# Altium integrated library Lattice Semiconductor ispMACH 4000C.IntLib: 180 symbols (part 19 of 28)
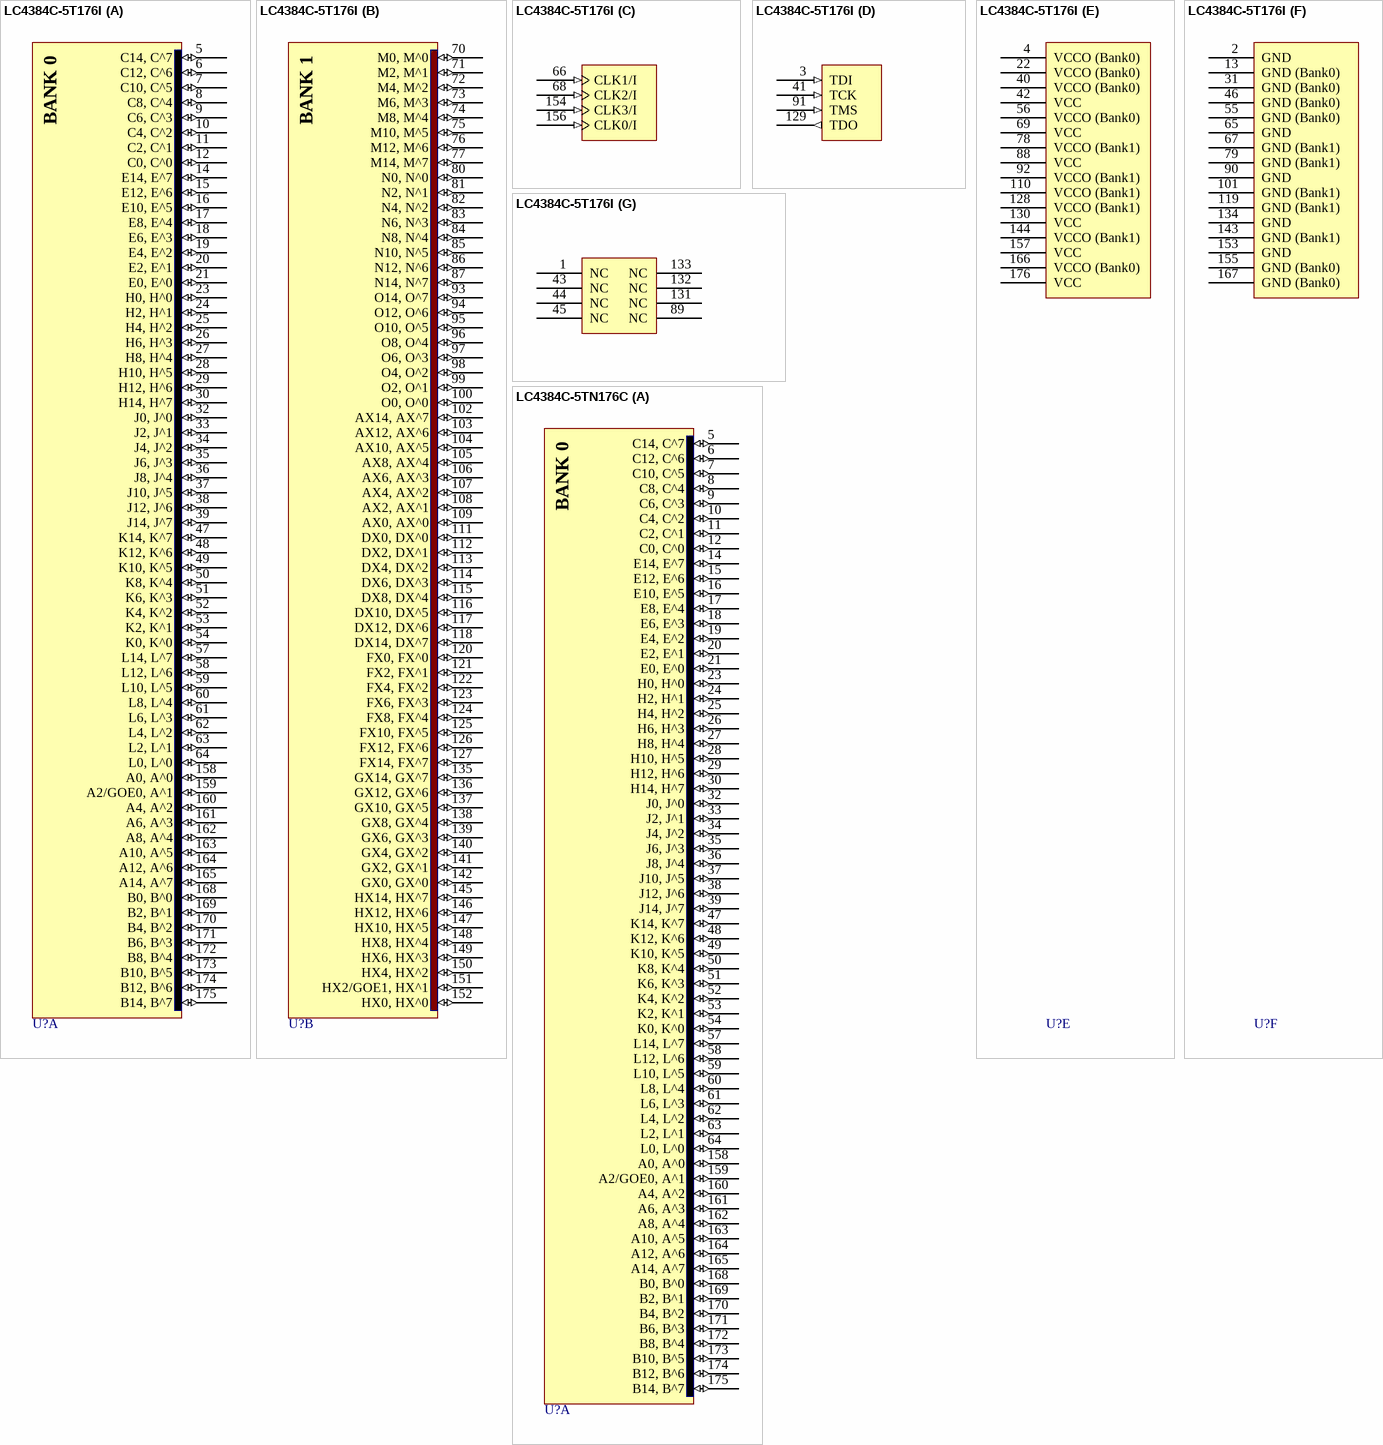
[diagram p122: symbols LC4384C-5T176I to LC4384C-5TN176C]

## LC4384C-5T176I
designator U?
ispMACH 4384 SuperFAST High Density PLD, 1.8 V, 128 User I/Os, 176-Pin TQFP, 5.0 ns, Industrial Grade; Note: Pin 46 is tied to GND (Bank 0).; DatasheetVersion: ver22.3, Mar-2007; PackageVersion: ver01.2 Feb-2007; PackageReference: TQFP176; PackageDescription: 176-Pin Thin Quad Flat Pack (TQFP176); ComponentLink1Description: Manufacturer URL; ComponentLink1URL: http://www.latticesemi.com/; ComponentLink2Description: Datasheet; ComponentLink2URL: http://www.latticesemi.com/dynamic/view_document.cfm?document_id=3646
footprint TQFP176_N (Thin QFP, 176-Leads, Body 24x24mm, Pitch 0.5mm, IPC Medium Density)
footprint TQFP176_L (Thin QFP, 176-Leads, Body 24x24mm, Pitch 0.5mm, IPC High Density)
footprint TQFP176_M (Thin QFP, 176-Leads, Body 24x24mm, Pitch 0.5mm, IPC Low Density)
part A pins: 5 C14, C^7 (io) "General purpose I/O.", 6 C12, C^6 (io) "General purpose I/O.", 7 C10, C^5 (io) "General purpose I/O.", 8 C8, C^4 (io) "General purpose I/O.", 9 C6, C^3 (io) "General purpose I/O.", 10 C4, C^2 (io) "General purpose I/O.", 11 C2, C^1 (io) "General purpose I/O.", 12 C0, C^0 (io) "General purpose I/O.", 14 E14, E^7 (io) "General purpose I/O.", 15 E12, E^6 (io) "General purpose I/O.", 16 E10, E^5 (io) "General purpose I/O.", 17 E8, E^4 (io) "General purpose I/O.", 18 E6, E^3 (io) "General purpose I/O.", 19 E4, E^2 (io) "General purpose I/O.", 20 E2, E^1 (io) "General purpose I/O.", 21 E0, E^0 (io) "General purpose I/O.", 23 H0, H^0 (io) "General purpose I/O.", 24 H2, H^1 (io) "General purpose I/O.", 25 H4, H^2 (io) "General purpose I/O.", 26 H6, H^3 (io) "General purpose I/O.", 27 H8, H^4 (io) "General purpose I/O.", 28 H10, H^5 (io) "General purpose I/O.", 29 H12, H^6 (io) "General purpose I/O.", 30 H14, H^7 (io) "General purpose I/O.", 32 J0, J^0 (io) "General purpose I/O.", 33 J2, J^1 (io) "General purpose I/O.", 34 J4, J^2 (io) "General purpose I/O.", 35 J6, J^3 (io) "General purpose I/O.", 36 J8, J^4 (io) "General purpose I/O.", 37 J10, J^5 (io) "General purpose I/O.", 38 J12, J^6 (io) "General purpose I/O.", 39 J14, J^7 (io) "General purpose I/O.", 47 K14, K^7 (io) "General purpose I/O.", 48 K12, K^6 (io) "General purpose I/O.", 49 K10, K^5 (io) "General purpose I/O.", 50 K8, K^4 (io) "General purpose I/O.", 51 K6, K^3 (io) "General purpose I/O.", 52 K4, K^2 (io) "General purpose I/O.", 53 K2, K^1 (io) "General purpose I/O.", 54 K0, K^0 (io) "General purpose I/O.", 57 L14, L^7 (io) "General purpose I/O.", 58 L12, L^6 (io) "General purpose I/O.", 59 L10, L^5 (io) "General purpose I/O.", 60 L8, L^4 (io) "General purpose I/O.", 61 L6, L^3 (io) "General purpose I/O.", 62 L4, L^2 (io) "General purpose I/O.", 63 L2, L^1 (io) "General purpose I/O.", 64 L0, L^0 (io) "General purpose I/O.", 158 A0, A^0 (io) "General purpose I/O.", 159 A2/GOE0, A^1 (io) "Either Global Output Enable Input or general I/O.", 160 A4, A^2 (io) "General purpose I/O.", 161 A6, A^3 (io) "General purpose I/O.", 162 A8, A^4 (io) "General purpose I/O.", 163 A10, A^5 (io) "General purpose I/O.", 164 A12, A^6 (io) "General purpose I/O.", 165 A14, A^7 (io) "General purpose I/O.", 168 B0, B^0 (io) "General purpose I/O.", 169 B2, B^1 (io) "General purpose I/O.", 170 B4, B^2 (io) "General purpose I/O.", 171 B6, B^3 (io) "General purpose I/O.", 172 B8, B^4 (io) "General purpose I/O.", 173 B10, B^5 (io) "General purpose I/O.", 174 B12, B^6 (io) "General purpose I/O.", 175 B14, B^7 (io) "General purpose I/O."
part B pins: 70 M0, M^0 (io) "General purpose I/O.", 71 M2, M^1 (io) "General purpose I/O.", 72 M4, M^2 (io) "General purpose I/O.", 73 M6, M^3 (io) "General purpose I/O.", 74 M8, M^4 (io) "General purpose I/O.", 75 M10, M^5 (io) "General purpose I/O.", 76 M12, M^6 (io) "General purpose I/O.", 77 M14, M^7 (io) "General purpose I/O.", 80 N0, N^0 (io) "General purpose I/O.", 81 N2, N^1 (io) "General purpose I/O.", 82 N4, N^2 (io) "General purpose I/O.", 83 N6, N^3 (io) "General purpose I/O.", 84 N8, N^4 (io) "General purpose I/O.", 85 N10, N^5 (io) "General purpose I/O.", 86 N12, N^6 (io) "General purpose I/O.", 87 N14, N^7 (io) "General purpose I/O.", 93 O14, O^7 (io) "General purpose I/O.", 94 O12, O^6 (io) "General purpose I/O.", 95 O10, O^5 (io) "General purpose I/O.", 96 O8, O^4 (io) "General purpose I/O.", 97 O6, O^3 (io) "General purpose I/O.", 98 O4, O^2 (io) "General purpose I/O.", 99 O2, O^1 (io) "General purpose I/O.", 100 O0, O^0 (io) "General purpose I/O.", 102 AX14, AX^7 (io) "General purpose I/O.", 103 AX12, AX^6 (io) "General purpose I/O.", 104 AX10, AX^5 (io) "General purpose I/O.", 105 AX8, AX^4 (io) "General purpose I/O.", 106 AX6, AX^3 (io) "General purpose I/O.", 107 AX4, AX^2 (io) "General purpose I/O.", 108 AX2, AX^1 (io) "General purpose I/O.", 109 AX0, AX^0 (io) "General purpose I/O.", 111 DX0, DX^0 (io) "General purpose I/O.", 112 DX2, DX^1 (io) "General purpose I/O.", 113 DX4, DX^2 (io) "General purpose I/O.", 114 DX6, DX^3 (io) "General purpose I/O.", 115 DX8, DX^4 (io) "General purpose I/O.", 116 DX10, DX^5 (io) "General purpose I/O.", 117 DX12, DX^6 (io) "General purpose I/O.", 118 DX14, DX^7 (io) "General purpose I/O.", 120 FX0, FX^0 (io) "General purpose I/O.", 121 FX2, FX^1 (io) "General purpose I/O.", 122 FX4, FX^2 (io) "General purpose I/O.", 123 FX6, FX^3 (io) "General purpose I/O.", 124 FX8, FX^4 (io) "General purpose I/O.", 125 FX10, FX^5 (io) "General purpose I/O.", 126 FX12, FX^6 (io) "General purpose I/O.", 127 FX14, FX^7 (io) "General purpose I/O.", 135 GX14, GX^7 (io) "General purpose I/O.", 136 GX12, GX^6 (io) "General purpose I/O.", 137 GX10, GX^5 (io) "General purpose I/O.", 138 GX8, GX^4 (io) "General purpose I/O.", 139 GX6, GX^3 (io) "General purpose I/O.", 140 GX4, GX^2 (io) "General purpose I/O.", 141 GX2, GX^1 (io) "General purpose I/O.", 142 GX0, GX^0 (io) "General purpose I/O.", 145 HX14, HX^7 (io) "General purpose I/O.", 146 HX12, HX^6 (io) "General purpose I/O.", 147 HX10, HX^5 (io) "General purpose I/O.", 148 HX8, HX^4 (io) "General purpose I/O.", 149 HX6, HX^3 (io) "General purpose I/O.", 150 HX4, HX^2 (io) "General purpose I/O.", 151 HX2/GOE1, HX^1 (io) "Either Global Output Enable Input or general I/O.", 152 HX0, HX^0 (io) "General purpose I/O."
part C pins: 66 CLK1/I (in) "Either CLK input or input.", 68 CLK2/I (in) "Either CLK input or input.", 154 CLK3/I (in) "Either CLK input or input.", 156 CLK0/I (in) "Either CLK input or input."
part D pins: 3 TDI (in) "Test Data Input. Loads data into device using 1149.1 state machine.", 41 TCK (in) "Test Clock Input for 1149.1 state machine.", 91 TMS (in) "Test Mode Select Input to control 1149.1 state machine.", 129 TDO (out) "Test Data Output. Shifts data out of device using 1149.1."
part E pins: 4 VCCO (Bank0) (power) "Power supply pin for I/O bank.", 22 VCCO (Bank0) (power) "Power supply pin for I/O bank.", 40 VCCO (Bank0) (power) "Power supply pin for I/O bank.", 42 VCC (power) "Power supply for logic core and JTAG port.", 56 VCCO (Bank0) (power) "Power supply pin for I/O bank.", 69 VCC (power) "Power supply for logic core and JTAG port.", 78 VCCO (Bank1) (power) "Power supply pin for I/O bank.", 88 VCC (power) "Power supply for logic core and JTAG port.", 92 VCCO (Bank1) (power) "Power supply pin for I/O bank.", 110 VCCO (Bank1) (power) "Power supply pin for I/O bank.", 128 VCCO (Bank1) (power) "Power supply pin for I/O bank.", 130 VCC (power) "Power supply for logic core and JTAG port.", 144 VCCO (Bank1) (power) "Power supply pin for I/O bank.", 157 VCC (power) "Power supply for logic core and JTAG port.", 166 VCCO (Bank0) (power) "Power supply pin for I/O bank.", 176 VCC (power) "Power supply for logic core and JTAG port."
part F pins: 2 GND (power) "Ground", 13 GND (Bank0) (power) "I/O Ground", 31 GND (Bank0) (power) "I/O Ground", 46 GND (Bank0) (power) "I/O Ground", 55 GND (Bank0) (power) "I/O Ground", 65 GND (power) "Ground", 67 GND (Bank1) (power) "I/O Ground", 79 GND (Bank1) (power) "I/O Ground", 90 GND (power) "Ground", 101 GND (Bank1) (power) "I/O Ground", 119 GND (Bank1) (power) "I/O Ground", 134 GND (power) "Ground", 143 GND (Bank1) (power) "I/O Ground", 153 GND (power) "Ground", 155 GND (Bank0) (power) "I/O Ground", 167 GND (Bank0) (power) "I/O Ground"
part G pins: 1 NC "Not Connected.", 43 NC "Not Connected.", 44 NC "Not Connected.", 45 NC "Not Connected.", 89 NC "Not Connected.", 131 NC "Not Connected.", 132 NC "Not Connected.", 133 NC "Not Connected."
part A text: BANK 0
part B text: BANK 1

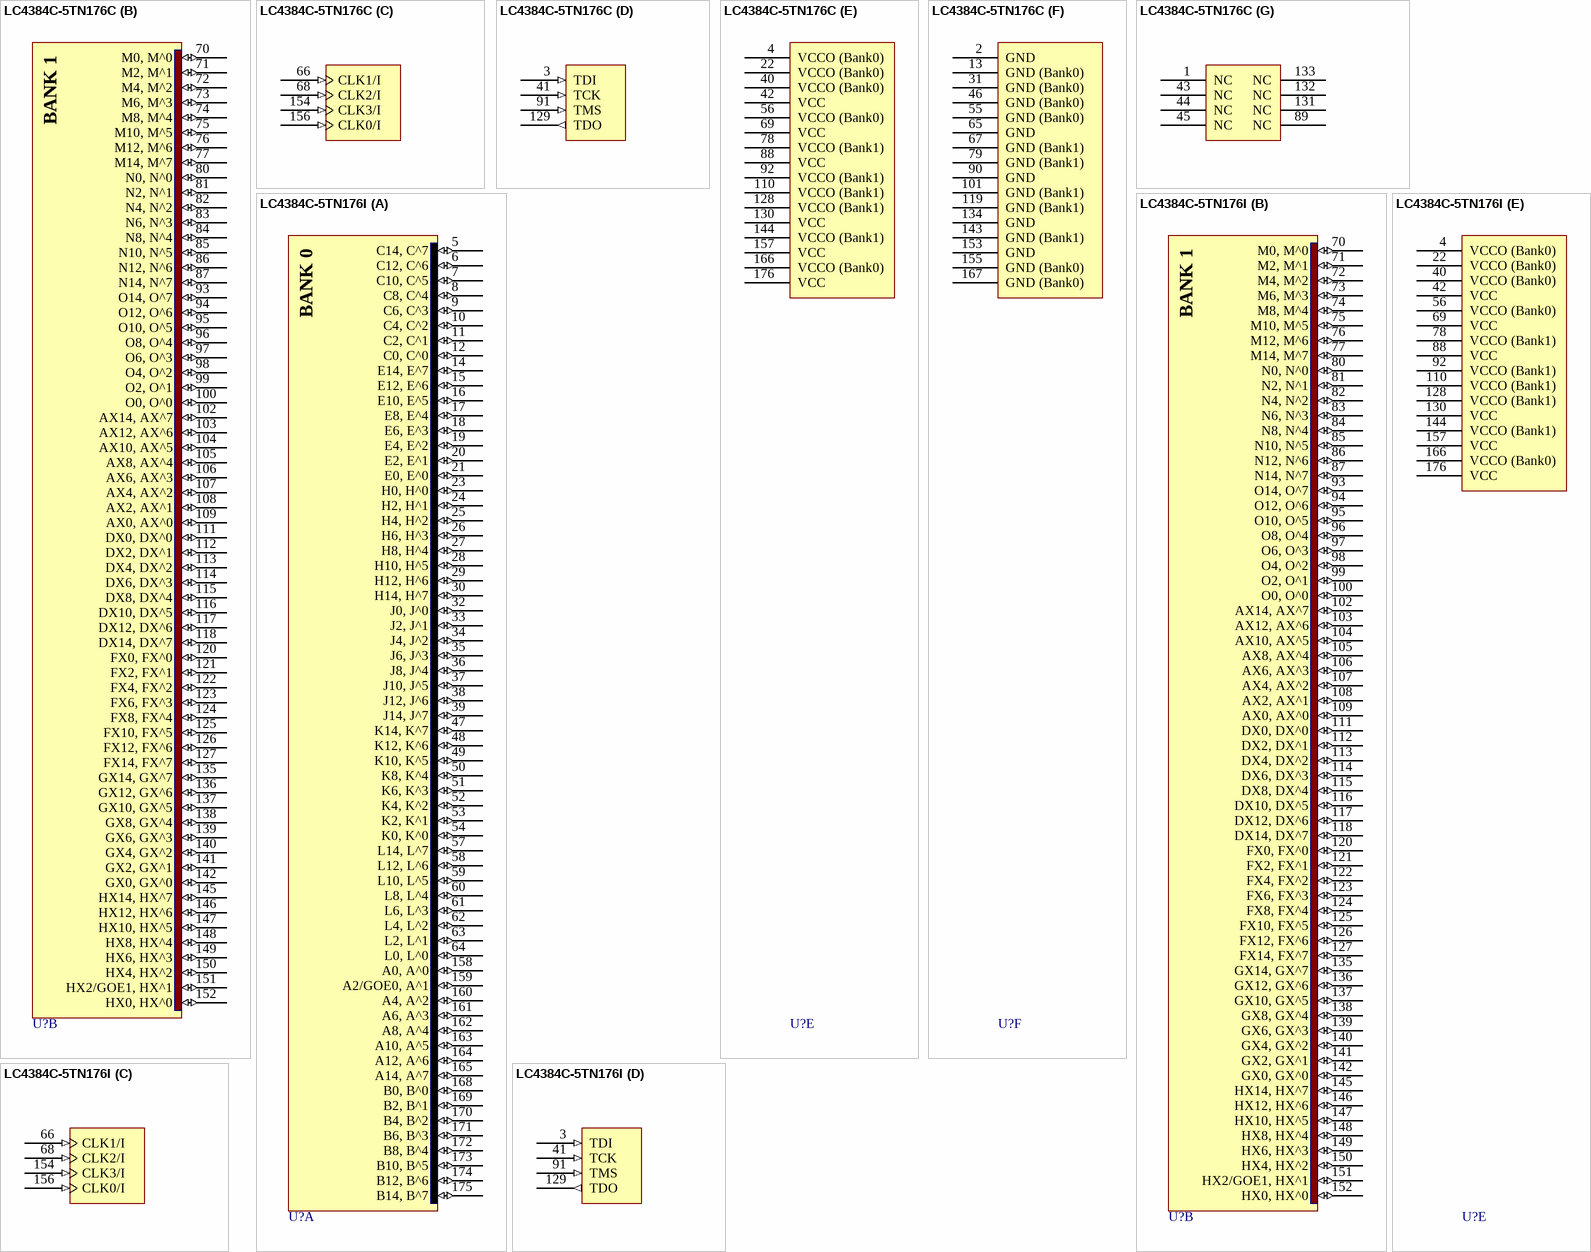
[diagram p70: symbols LC4384C-5TN176C to LC4384C-5TN176I]

## LC4384C-5TN176C
designator U?
ispMACH 4384 SuperFAST High Density PLD, 1.8 V, 128 User I/Os, 176-Pin Pb-Free TQFP, 5.0 ns, Commercial Grade; Note: Pin 46 is tied to GND (Bank 0).; DatasheetVersion: ver22.3, Mar-2007; PackageVersion: ver01.2 Feb-2007; PackageReference: TQFP176; PackageDescription: 176-Pin Thin Quad Flat Pack (TQFP176); ComponentLink1Description: Manufacturer URL; ComponentLink1URL: http://www.latticesemi.com/; ComponentLink2Description: Datasheet; ComponentLink2URL: http://www.latticesemi.com/dynamic/view_document.cfm?document_id=3646
footprint TQFP176_N (Thin QFP, 176-Leads, Body 24x24mm, Pitch 0.5mm, IPC Medium Density)
footprint TQFP176_L (Thin QFP, 176-Leads, Body 24x24mm, Pitch 0.5mm, IPC High Density)
footprint TQFP176_M (Thin QFP, 176-Leads, Body 24x24mm, Pitch 0.5mm, IPC Low Density)
part A pins: 5 C14, C^7 (io) "General purpose I/O.", 6 C12, C^6 (io) "General purpose I/O.", 7 C10, C^5 (io) "General purpose I/O.", 8 C8, C^4 (io) "General purpose I/O.", 9 C6, C^3 (io) "General purpose I/O.", 10 C4, C^2 (io) "General purpose I/O.", 11 C2, C^1 (io) "General purpose I/O.", 12 C0, C^0 (io) "General purpose I/O.", 14 E14, E^7 (io) "General purpose I/O.", 15 E12, E^6 (io) "General purpose I/O.", 16 E10, E^5 (io) "General purpose I/O.", 17 E8, E^4 (io) "General purpose I/O.", 18 E6, E^3 (io) "General purpose I/O.", 19 E4, E^2 (io) "General purpose I/O.", 20 E2, E^1 (io) "General purpose I/O.", 21 E0, E^0 (io) "General purpose I/O.", 23 H0, H^0 (io) "General purpose I/O.", 24 H2, H^1 (io) "General purpose I/O.", 25 H4, H^2 (io) "General purpose I/O.", 26 H6, H^3 (io) "General purpose I/O.", 27 H8, H^4 (io) "General purpose I/O.", 28 H10, H^5 (io) "General purpose I/O.", 29 H12, H^6 (io) "General purpose I/O.", 30 H14, H^7 (io) "General purpose I/O.", 32 J0, J^0 (io) "General purpose I/O.", 33 J2, J^1 (io) "General purpose I/O.", 34 J4, J^2 (io) "General purpose I/O.", 35 J6, J^3 (io) "General purpose I/O.", 36 J8, J^4 (io) "General purpose I/O.", 37 J10, J^5 (io) "General purpose I/O.", 38 J12, J^6 (io) "General purpose I/O.", 39 J14, J^7 (io) "General purpose I/O.", 47 K14, K^7 (io) "General purpose I/O.", 48 K12, K^6 (io) "General purpose I/O.", 49 K10, K^5 (io) "General purpose I/O.", 50 K8, K^4 (io) "General purpose I/O.", 51 K6, K^3 (io) "General purpose I/O.", 52 K4, K^2 (io) "General purpose I/O.", 53 K2, K^1 (io) "General purpose I/O.", 54 K0, K^0 (io) "General purpose I/O.", 57 L14, L^7 (io) "General purpose I/O.", 58 L12, L^6 (io) "General purpose I/O.", 59 L10, L^5 (io) "General purpose I/O.", 60 L8, L^4 (io) "General purpose I/O.", 61 L6, L^3 (io) "General purpose I/O.", 62 L4, L^2 (io) "General purpose I/O.", 63 L2, L^1 (io) "General purpose I/O.", 64 L0, L^0 (io) "General purpose I/O.", 158 A0, A^0 (io) "General purpose I/O.", 159 A2/GOE0, A^1 (io) "Either Global Output Enable Input or general I/O.", 160 A4, A^2 (io) "General purpose I/O.", 161 A6, A^3 (io) "General purpose I/O.", 162 A8, A^4 (io) "General purpose I/O.", 163 A10, A^5 (io) "General purpose I/O.", 164 A12, A^6 (io) "General purpose I/O.", 165 A14, A^7 (io) "General purpose I/O.", 168 B0, B^0 (io) "General purpose I/O.", 169 B2, B^1 (io) "General purpose I/O.", 170 B4, B^2 (io) "General purpose I/O.", 171 B6, B^3 (io) "General purpose I/O.", 172 B8, B^4 (io) "General purpose I/O.", 173 B10, B^5 (io) "General purpose I/O.", 174 B12, B^6 (io) "General purpose I/O.", 175 B14, B^7 (io) "General purpose I/O."
part B pins: 70 M0, M^0 (io) "General purpose I/O.", 71 M2, M^1 (io) "General purpose I/O.", 72 M4, M^2 (io) "General purpose I/O.", 73 M6, M^3 (io) "General purpose I/O.", 74 M8, M^4 (io) "General purpose I/O.", 75 M10, M^5 (io) "General purpose I/O.", 76 M12, M^6 (io) "General purpose I/O.", 77 M14, M^7 (io) "General purpose I/O.", 80 N0, N^0 (io) "General purpose I/O.", 81 N2, N^1 (io) "General purpose I/O.", 82 N4, N^2 (io) "General purpose I/O.", 83 N6, N^3 (io) "General purpose I/O.", 84 N8, N^4 (io) "General purpose I/O.", 85 N10, N^5 (io) "General purpose I/O.", 86 N12, N^6 (io) "General purpose I/O.", 87 N14, N^7 (io) "General purpose I/O.", 93 O14, O^7 (io) "General purpose I/O.", 94 O12, O^6 (io) "General purpose I/O.", 95 O10, O^5 (io) "General purpose I/O.", 96 O8, O^4 (io) "General purpose I/O.", 97 O6, O^3 (io) "General purpose I/O.", 98 O4, O^2 (io) "General purpose I/O.", 99 O2, O^1 (io) "General purpose I/O.", 100 O0, O^0 (io) "General purpose I/O.", 102 AX14, AX^7 (io) "General purpose I/O.", 103 AX12, AX^6 (io) "General purpose I/O.", 104 AX10, AX^5 (io) "General purpose I/O.", 105 AX8, AX^4 (io) "General purpose I/O.", 106 AX6, AX^3 (io) "General purpose I/O.", 107 AX4, AX^2 (io) "General purpose I/O.", 108 AX2, AX^1 (io) "General purpose I/O.", 109 AX0, AX^0 (io) "General purpose I/O.", 111 DX0, DX^0 (io) "General purpose I/O.", 112 DX2, DX^1 (io) "General purpose I/O.", 113 DX4, DX^2 (io) "General purpose I/O.", 114 DX6, DX^3 (io) "General purpose I/O.", 115 DX8, DX^4 (io) "General purpose I/O.", 116 DX10, DX^5 (io) "General purpose I/O.", 117 DX12, DX^6 (io) "General purpose I/O.", 118 DX14, DX^7 (io) "General purpose I/O.", 120 FX0, FX^0 (io) "General purpose I/O.", 121 FX2, FX^1 (io) "General purpose I/O.", 122 FX4, FX^2 (io) "General purpose I/O.", 123 FX6, FX^3 (io) "General purpose I/O.", 124 FX8, FX^4 (io) "General purpose I/O.", 125 FX10, FX^5 (io) "General purpose I/O.", 126 FX12, FX^6 (io) "General purpose I/O.", 127 FX14, FX^7 (io) "General purpose I/O.", 135 GX14, GX^7 (io) "General purpose I/O.", 136 GX12, GX^6 (io) "General purpose I/O.", 137 GX10, GX^5 (io) "General purpose I/O.", 138 GX8, GX^4 (io) "General purpose I/O.", 139 GX6, GX^3 (io) "General purpose I/O.", 140 GX4, GX^2 (io) "General purpose I/O.", 141 GX2, GX^1 (io) "General purpose I/O.", 142 GX0, GX^0 (io) "General purpose I/O.", 145 HX14, HX^7 (io) "General purpose I/O.", 146 HX12, HX^6 (io) "General purpose I/O.", 147 HX10, HX^5 (io) "General purpose I/O.", 148 HX8, HX^4 (io) "General purpose I/O.", 149 HX6, HX^3 (io) "General purpose I/O.", 150 HX4, HX^2 (io) "General purpose I/O.", 151 HX2/GOE1, HX^1 (io) "Either Global Output Enable Input or general I/O.", 152 HX0, HX^0 (io) "General purpose I/O."
part C pins: 66 CLK1/I (in) "Either CLK input or input.", 68 CLK2/I (in) "Either CLK input or input.", 154 CLK3/I (in) "Either CLK input or input.", 156 CLK0/I (in) "Either CLK input or input."
part D pins: 3 TDI (in) "Test Data Input. Loads data into device using 1149.1 state machine.", 41 TCK (in) "Test Clock Input for 1149.1 state machine.", 91 TMS (in) "Test Mode Select Input to control 1149.1 state machine.", 129 TDO (out) "Test Data Output. Shifts data out of device using 1149.1."
part E pins: 4 VCCO (Bank0) (power) "Power supply pin for I/O bank.", 22 VCCO (Bank0) (power) "Power supply pin for I/O bank.", 40 VCCO (Bank0) (power) "Power supply pin for I/O bank.", 42 VCC (power) "Power supply for logic core and JTAG port.", 56 VCCO (Bank0) (power) "Power supply pin for I/O bank.", 69 VCC (power) "Power supply for logic core and JTAG port.", 78 VCCO (Bank1) (power) "Power supply pin for I/O bank.", 88 VCC (power) "Power supply for logic core and JTAG port.", 92 VCCO (Bank1) (power) "Power supply pin for I/O bank.", 110 VCCO (Bank1) (power) "Power supply pin for I/O bank.", 128 VCCO (Bank1) (power) "Power supply pin for I/O bank.", 130 VCC (power) "Power supply for logic core and JTAG port.", 144 VCCO (Bank1) (power) "Power supply pin for I/O bank.", 157 VCC (power) "Power supply for logic core and JTAG port.", 166 VCCO (Bank0) (power) "Power supply pin for I/O bank.", 176 VCC (power) "Power supply for logic core and JTAG port."
part F pins: 2 GND (power) "Ground", 13 GND (Bank0) (power) "I/O Ground", 31 GND (Bank0) (power) "I/O Ground", 46 GND (Bank0) (power) "I/O Ground", 55 GND (Bank0) (power) "I/O Ground", 65 GND (power) "Ground", 67 GND (Bank1) (power) "I/O Ground", 79 GND (Bank1) (power) "I/O Ground", 90 GND (power) "Ground", 101 GND (Bank1) (power) "I/O Ground", 119 GND (Bank1) (power) "I/O Ground", 134 GND (power) "Ground", 143 GND (Bank1) (power) "I/O Ground", 153 GND (power) "Ground", 155 GND (Bank0) (power) "I/O Ground", 167 GND (Bank0) (power) "I/O Ground"
part G pins: 1 NC "Not Connected.", 43 NC "Not Connected.", 44 NC "Not Connected.", 45 NC "Not Connected.", 89 NC "Not Connected.", 131 NC "Not Connected.", 132 NC "Not Connected.", 133 NC "Not Connected."
part A text: BANK 0
part B text: BANK 1

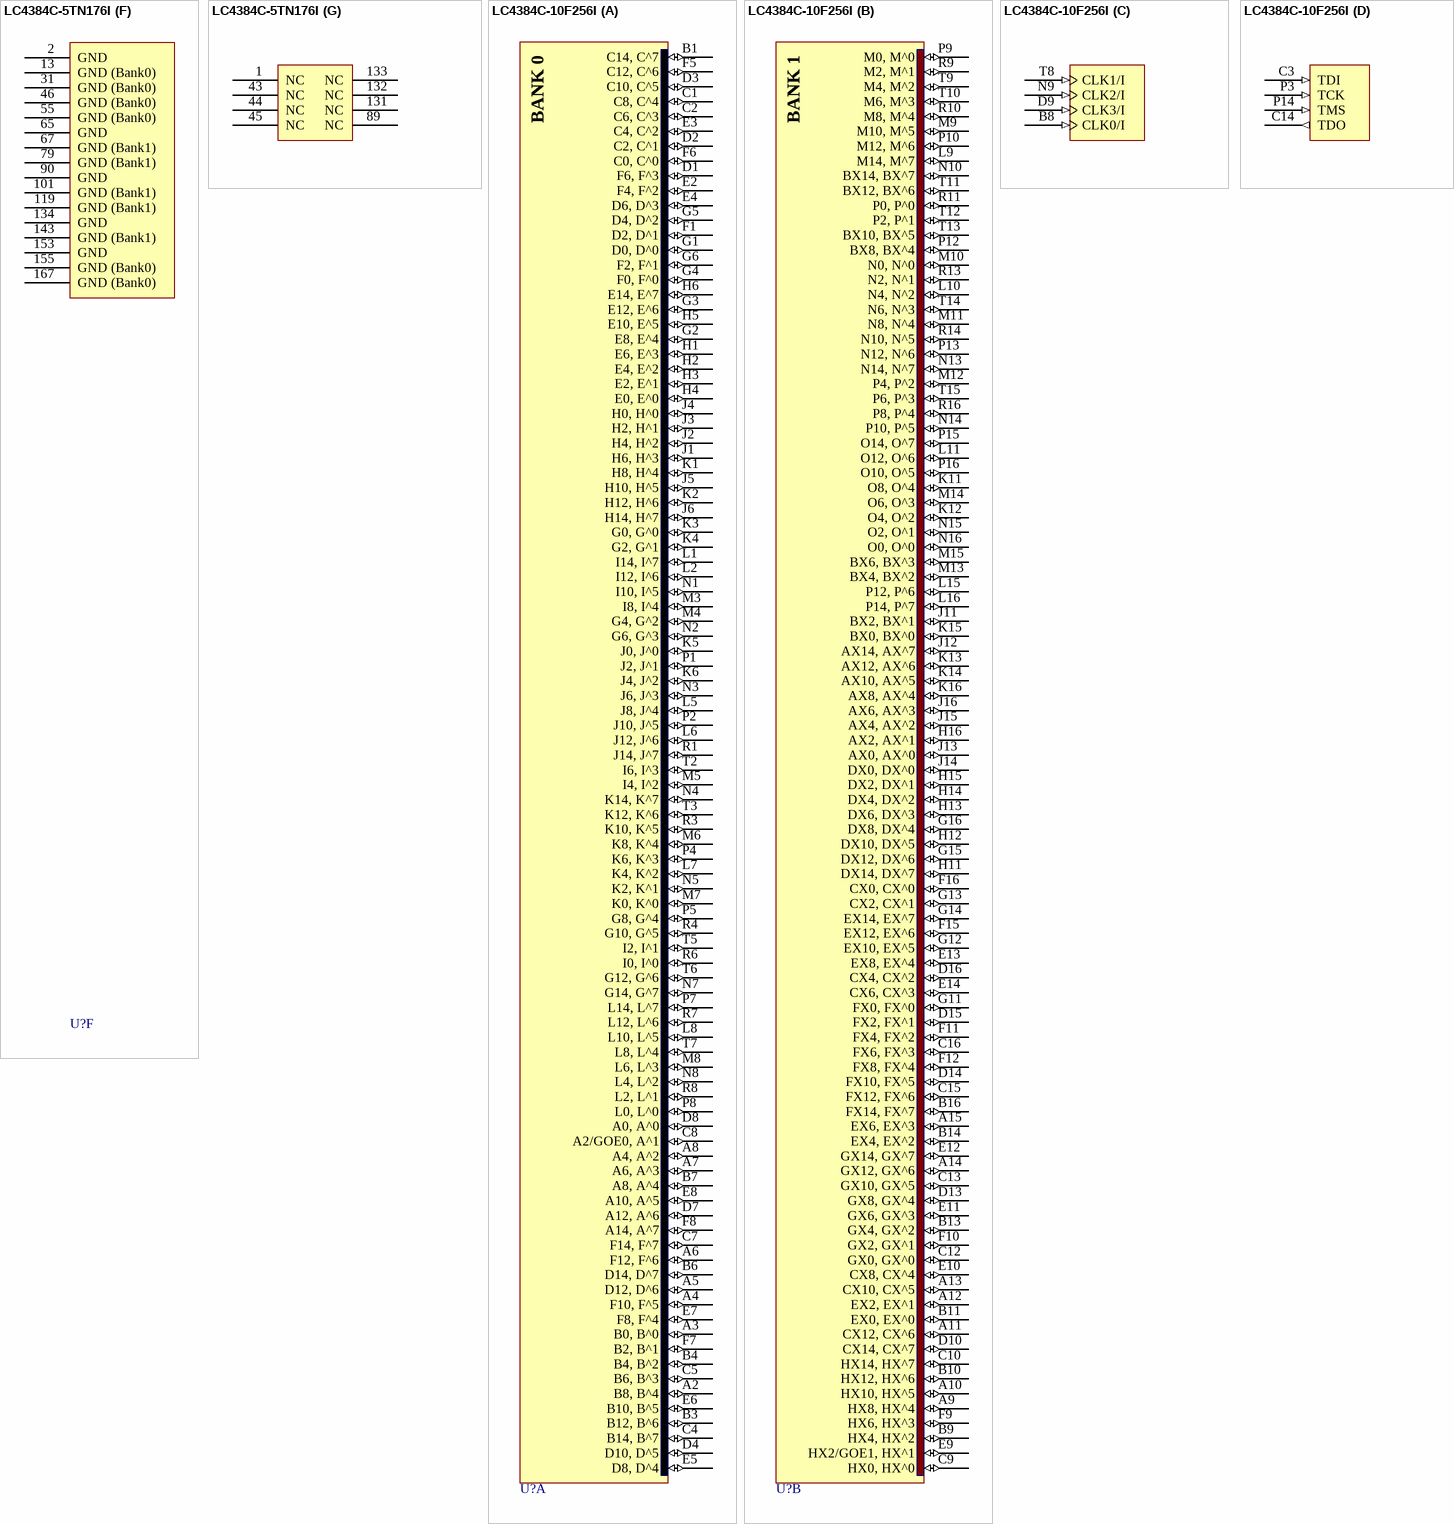
[diagram p71: symbols LC4384C-5TN176I to LC4384C-10F256I]

## LC4384C-5TN176I
designator U?
ispMACH 4384 SuperFAST High Density PLD, 1.8 V, 128 User I/Os, 176-Pin Pb-Free TQFP, 5.0 ns, Industrial Grade; Note: Pin 46 is tied to GND (Bank 0).; DatasheetVersion: ver22.3, Mar-2007; PackageVersion: ver01.2 Feb-2007; PackageReference: TQFP176; PackageDescription: 176-Pin Thin Quad Flat Pack (TQFP176); ComponentLink1Description: Manufacturer URL; ComponentLink1URL: http://www.latticesemi.com/; ComponentLink2Description: Datasheet; ComponentLink2URL: http://www.latticesemi.com/dynamic/view_document.cfm?document_id=3646
footprint TQFP176_N (Thin QFP, 176-Leads, Body 24x24mm, Pitch 0.5mm, IPC Medium Density)
footprint TQFP176_L (Thin QFP, 176-Leads, Body 24x24mm, Pitch 0.5mm, IPC High Density)
footprint TQFP176_M (Thin QFP, 176-Leads, Body 24x24mm, Pitch 0.5mm, IPC Low Density)
part A pins: 5 C14, C^7 (io) "General purpose I/O.", 6 C12, C^6 (io) "General purpose I/O.", 7 C10, C^5 (io) "General purpose I/O.", 8 C8, C^4 (io) "General purpose I/O.", 9 C6, C^3 (io) "General purpose I/O.", 10 C4, C^2 (io) "General purpose I/O.", 11 C2, C^1 (io) "General purpose I/O.", 12 C0, C^0 (io) "General purpose I/O.", 14 E14, E^7 (io) "General purpose I/O.", 15 E12, E^6 (io) "General purpose I/O.", 16 E10, E^5 (io) "General purpose I/O.", 17 E8, E^4 (io) "General purpose I/O.", 18 E6, E^3 (io) "General purpose I/O.", 19 E4, E^2 (io) "General purpose I/O.", 20 E2, E^1 (io) "General purpose I/O.", 21 E0, E^0 (io) "General purpose I/O.", 23 H0, H^0 (io) "General purpose I/O.", 24 H2, H^1 (io) "General purpose I/O.", 25 H4, H^2 (io) "General purpose I/O.", 26 H6, H^3 (io) "General purpose I/O.", 27 H8, H^4 (io) "General purpose I/O.", 28 H10, H^5 (io) "General purpose I/O.", 29 H12, H^6 (io) "General purpose I/O.", 30 H14, H^7 (io) "General purpose I/O.", 32 J0, J^0 (io) "General purpose I/O.", 33 J2, J^1 (io) "General purpose I/O.", 34 J4, J^2 (io) "General purpose I/O.", 35 J6, J^3 (io) "General purpose I/O.", 36 J8, J^4 (io) "General purpose I/O.", 37 J10, J^5 (io) "General purpose I/O.", 38 J12, J^6 (io) "General purpose I/O.", 39 J14, J^7 (io) "General purpose I/O.", 47 K14, K^7 (io) "General purpose I/O.", 48 K12, K^6 (io) "General purpose I/O.", 49 K10, K^5 (io) "General purpose I/O.", 50 K8, K^4 (io) "General purpose I/O.", 51 K6, K^3 (io) "General purpose I/O.", 52 K4, K^2 (io) "General purpose I/O.", 53 K2, K^1 (io) "General purpose I/O.", 54 K0, K^0 (io) "General purpose I/O.", 57 L14, L^7 (io) "General purpose I/O.", 58 L12, L^6 (io) "General purpose I/O.", 59 L10, L^5 (io) "General purpose I/O.", 60 L8, L^4 (io) "General purpose I/O.", 61 L6, L^3 (io) "General purpose I/O.", 62 L4, L^2 (io) "General purpose I/O.", 63 L2, L^1 (io) "General purpose I/O.", 64 L0, L^0 (io) "General purpose I/O.", 158 A0, A^0 (io) "General purpose I/O.", 159 A2/GOE0, A^1 (io) "Either Global Output Enable Input or general I/O.", 160 A4, A^2 (io) "General purpose I/O.", 161 A6, A^3 (io) "General purpose I/O.", 162 A8, A^4 (io) "General purpose I/O.", 163 A10, A^5 (io) "General purpose I/O.", 164 A12, A^6 (io) "General purpose I/O.", 165 A14, A^7 (io) "General purpose I/O.", 168 B0, B^0 (io) "General purpose I/O.", 169 B2, B^1 (io) "General purpose I/O.", 170 B4, B^2 (io) "General purpose I/O.", 171 B6, B^3 (io) "General purpose I/O.", 172 B8, B^4 (io) "General purpose I/O.", 173 B10, B^5 (io) "General purpose I/O.", 174 B12, B^6 (io) "General purpose I/O.", 175 B14, B^7 (io) "General purpose I/O."
part B pins: 70 M0, M^0 (io) "General purpose I/O.", 71 M2, M^1 (io) "General purpose I/O.", 72 M4, M^2 (io) "General purpose I/O.", 73 M6, M^3 (io) "General purpose I/O.", 74 M8, M^4 (io) "General purpose I/O.", 75 M10, M^5 (io) "General purpose I/O.", 76 M12, M^6 (io) "General purpose I/O.", 77 M14, M^7 (io) "General purpose I/O.", 80 N0, N^0 (io) "General purpose I/O.", 81 N2, N^1 (io) "General purpose I/O.", 82 N4, N^2 (io) "General purpose I/O.", 83 N6, N^3 (io) "General purpose I/O.", 84 N8, N^4 (io) "General purpose I/O.", 85 N10, N^5 (io) "General purpose I/O.", 86 N12, N^6 (io) "General purpose I/O.", 87 N14, N^7 (io) "General purpose I/O.", 93 O14, O^7 (io) "General purpose I/O.", 94 O12, O^6 (io) "General purpose I/O.", 95 O10, O^5 (io) "General purpose I/O.", 96 O8, O^4 (io) "General purpose I/O.", 97 O6, O^3 (io) "General purpose I/O.", 98 O4, O^2 (io) "General purpose I/O.", 99 O2, O^1 (io) "General purpose I/O.", 100 O0, O^0 (io) "General purpose I/O.", 102 AX14, AX^7 (io) "General purpose I/O.", 103 AX12, AX^6 (io) "General purpose I/O.", 104 AX10, AX^5 (io) "General purpose I/O.", 105 AX8, AX^4 (io) "General purpose I/O.", 106 AX6, AX^3 (io) "General purpose I/O.", 107 AX4, AX^2 (io) "General purpose I/O.", 108 AX2, AX^1 (io) "General purpose I/O.", 109 AX0, AX^0 (io) "General purpose I/O.", 111 DX0, DX^0 (io) "General purpose I/O.", 112 DX2, DX^1 (io) "General purpose I/O.", 113 DX4, DX^2 (io) "General purpose I/O.", 114 DX6, DX^3 (io) "General purpose I/O.", 115 DX8, DX^4 (io) "General purpose I/O.", 116 DX10, DX^5 (io) "General purpose I/O.", 117 DX12, DX^6 (io) "General purpose I/O.", 118 DX14, DX^7 (io) "General purpose I/O.", 120 FX0, FX^0 (io) "General purpose I/O.", 121 FX2, FX^1 (io) "General purpose I/O.", 122 FX4, FX^2 (io) "General purpose I/O.", 123 FX6, FX^3 (io) "General purpose I/O.", 124 FX8, FX^4 (io) "General purpose I/O.", 125 FX10, FX^5 (io) "General purpose I/O.", 126 FX12, FX^6 (io) "General purpose I/O.", 127 FX14, FX^7 (io) "General purpose I/O.", 135 GX14, GX^7 (io) "General purpose I/O.", 136 GX12, GX^6 (io) "General purpose I/O.", 137 GX10, GX^5 (io) "General purpose I/O.", 138 GX8, GX^4 (io) "General purpose I/O.", 139 GX6, GX^3 (io) "General purpose I/O.", 140 GX4, GX^2 (io) "General purpose I/O.", 141 GX2, GX^1 (io) "General purpose I/O.", 142 GX0, GX^0 (io) "General purpose I/O.", 145 HX14, HX^7 (io) "General purpose I/O.", 146 HX12, HX^6 (io) "General purpose I/O.", 147 HX10, HX^5 (io) "General purpose I/O.", 148 HX8, HX^4 (io) "General purpose I/O.", 149 HX6, HX^3 (io) "General purpose I/O.", 150 HX4, HX^2 (io) "General purpose I/O.", 151 HX2/GOE1, HX^1 (io) "Either Global Output Enable Input or general I/O.", 152 HX0, HX^0 (io) "General purpose I/O."
part C pins: 66 CLK1/I (in) "Either CLK input or input.", 68 CLK2/I (in) "Either CLK input or input.", 154 CLK3/I (in) "Either CLK input or input.", 156 CLK0/I (in) "Either CLK input or input."
part D pins: 3 TDI (in) "Test Data Input. Loads data into device using 1149.1 state machine.", 41 TCK (in) "Test Clock Input for 1149.1 state machine.", 91 TMS (in) "Test Mode Select Input to control 1149.1 state machine.", 129 TDO (out) "Test Data Output. Shifts data out of device using 1149.1."
part E pins: 4 VCCO (Bank0) (power) "Power supply pin for I/O bank.", 22 VCCO (Bank0) (power) "Power supply pin for I/O bank.", 40 VCCO (Bank0) (power) "Power supply pin for I/O bank.", 42 VCC (power) "Power supply for logic core and JTAG port.", 56 VCCO (Bank0) (power) "Power supply pin for I/O bank.", 69 VCC (power) "Power supply for logic core and JTAG port.", 78 VCCO (Bank1) (power) "Power supply pin for I/O bank.", 88 VCC (power) "Power supply for logic core and JTAG port.", 92 VCCO (Bank1) (power) "Power supply pin for I/O bank.", 110 VCCO (Bank1) (power) "Power supply pin for I/O bank.", 128 VCCO (Bank1) (power) "Power supply pin for I/O bank.", 130 VCC (power) "Power supply for logic core and JTAG port.", 144 VCCO (Bank1) (power) "Power supply pin for I/O bank.", 157 VCC (power) "Power supply for logic core and JTAG port.", 166 VCCO (Bank0) (power) "Power supply pin for I/O bank.", 176 VCC (power) "Power supply for logic core and JTAG port."
part F pins: 2 GND (power) "Ground", 13 GND (Bank0) (power) "I/O Ground", 31 GND (Bank0) (power) "I/O Ground", 46 GND (Bank0) (power) "I/O Ground", 55 GND (Bank0) (power) "I/O Ground", 65 GND (power) "Ground", 67 GND (Bank1) (power) "I/O Ground", 79 GND (Bank1) (power) "I/O Ground", 90 GND (power) "Ground", 101 GND (Bank1) (power) "I/O Ground", 119 GND (Bank1) (power) "I/O Ground", 134 GND (power) "Ground", 143 GND (Bank1) (power) "I/O Ground", 153 GND (power) "Ground", 155 GND (Bank0) (power) "I/O Ground", 167 GND (Bank0) (power) "I/O Ground"
part G pins: 1 NC "Not Connected.", 43 NC "Not Connected.", 44 NC "Not Connected.", 45 NC "Not Connected.", 89 NC "Not Connected.", 131 NC "Not Connected.", 132 NC "Not Connected.", 133 NC "Not Connected."
part A text: BANK 0
part B text: BANK 1

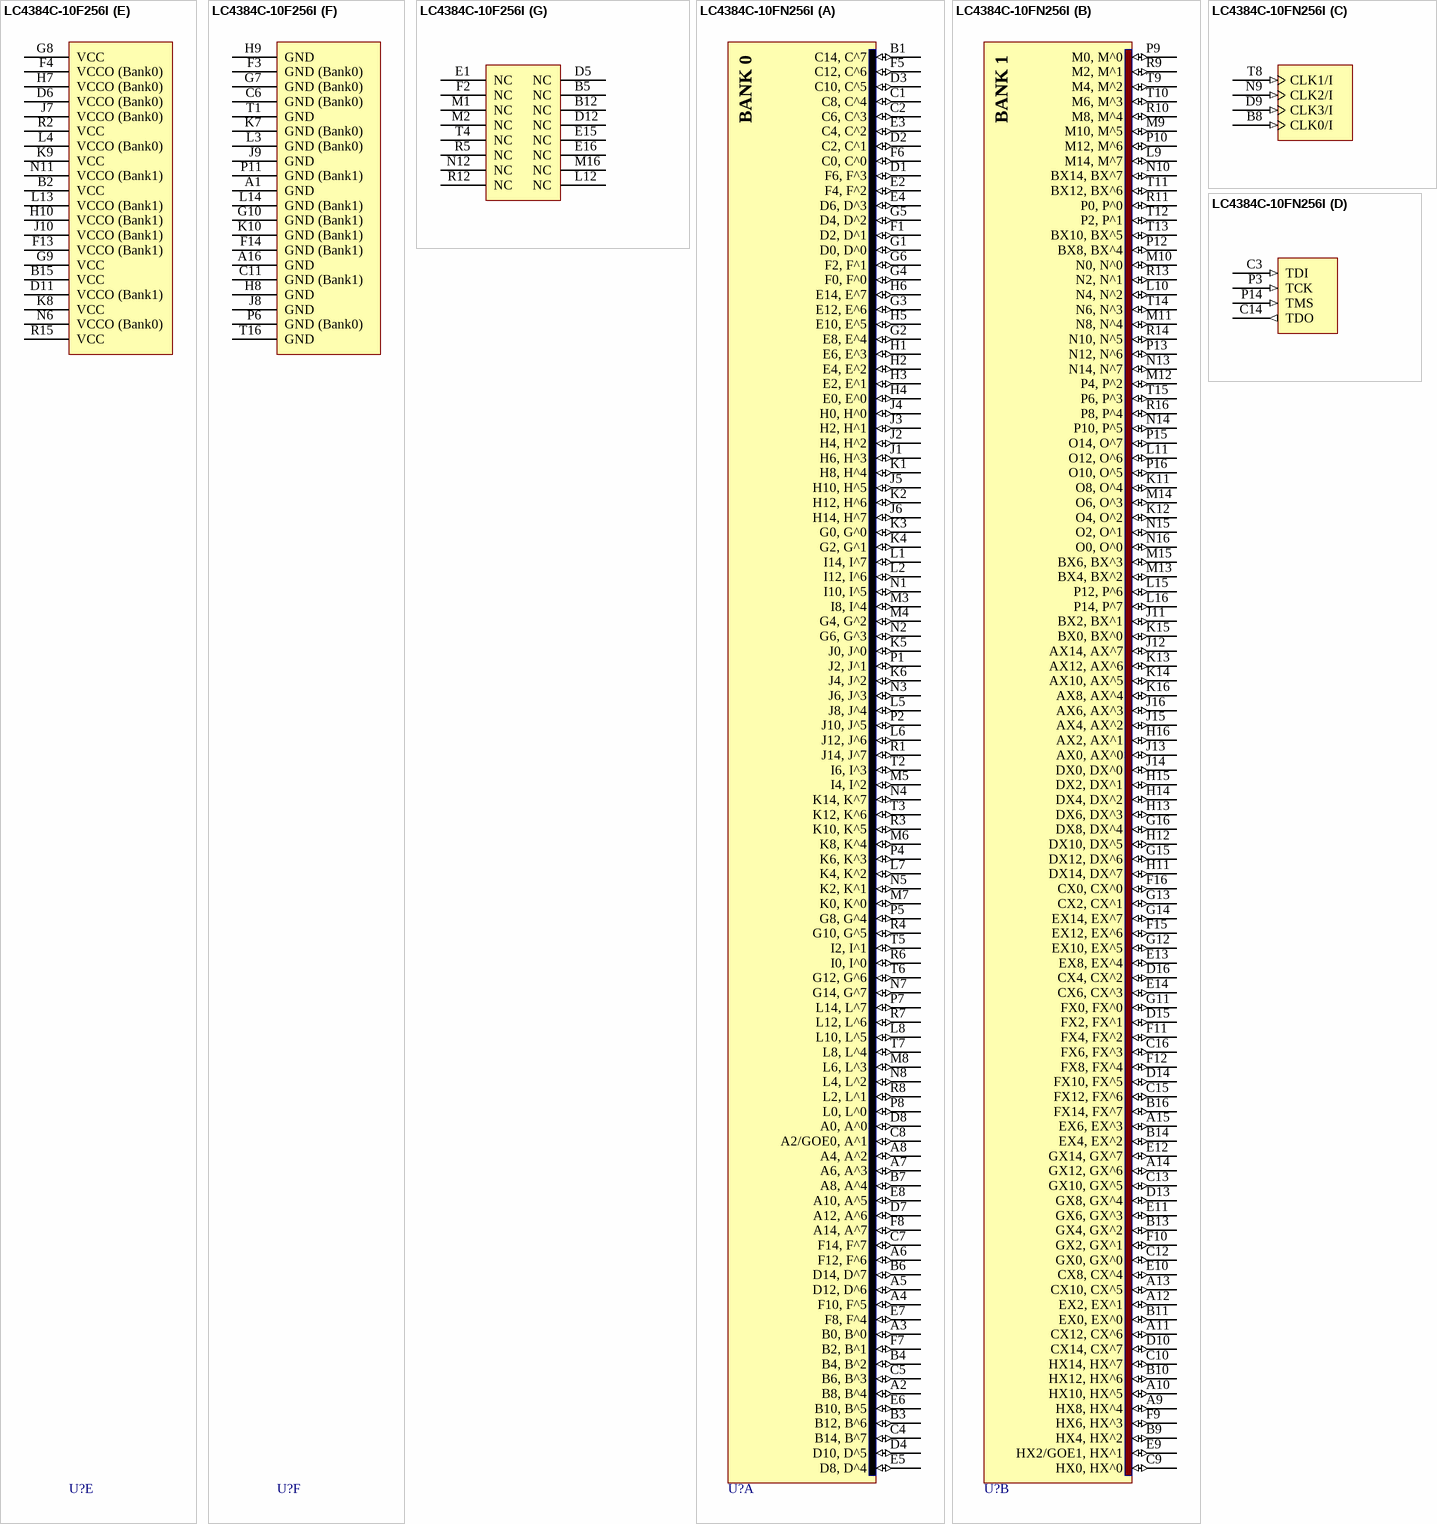
[diagram p72: symbols LC4384C-10F256I to LC4384C-10FN256I]

## LC4384C-10F256I
designator U?
ispMACH 4384 SuperFAST High Density PLD, 1.8 V, 192 User I/Os, 256-Ball fpBGA, 10 ns, Industrial Grade; DatasheetVersion: ver22.3, Mar-2007; PackageVersion: ver01.8, Dec-2008; PackageReference: fpBGA256; PackageDescription: 256-Ball Fine Pitch Ball Grid Array (fpBGA256); Code_IPC: BGA100P16X16-256; ComponentLink1Description: Manufacturer URL; ComponentLink1URL: http://www.latticesemi.com/; ComponentLink2Description: Datasheet; ComponentLink2URL: http://www.latticesemi.com/dynamic/view_document.cfm?document_id=3646
footprint fpBGA256 (BGA, 256-Leads, Body 17x17mm, Pitch 1mm)
part A pins: A2 B8, B^4 (io) "General purpose I/O.", A3 B0, B^0 (io) "General purpose I/O.", A4 F10, F^5 (io) "General purpose I/O.", A5 D12, D^6 (io) "General purpose I/O.", A6 F12, F^6 (io) "General purpose I/O.", A7 A6, A^3 (io) "General purpose I/O.", A8 A4, A^2 (io) "General purpose I/O.", B1 C14, C^7 (io) "General purpose I/O.", B3 B12, B^6 (io) "General purpose I/O.", B4 B4, B^2 (io) "General purpose I/O.", B6 D14, D^7 (io) "General purpose I/O.", B7 A8, A^4 (io) "General purpose I/O.", C1 C8, C^4 (io) "General purpose I/O.", C2 C6, C^3 (io) "General purpose I/O.", C4 B14, B^7 (io) "General purpose I/O.", C5 B6, B^3 (io) "General purpose I/O.", C7 F14, F^7 (io) "General purpose I/O.", C8 A2/GOE0, A^1 (io) "Either Global Output Enable Input or general I/O.", D1 F6, F^3 (io) "General purpose I/O.", D2 C2, C^1 (io) "General purpose I/O.", D3 C10, C^5 (io) "General purpose I/O.", D4 D10, D^5 (io) "General purpose I/O.", D7 A12, A^6 (io) "General purpose I/O.", D8 A0, A^0 (io) "General purpose I/O.", E2 F4, F^2 (io) "General purpose I/O.", E3 C4, C^2 (io) "General purpose I/O.", E4 D6, D^3 (io) "General purpose I/O.", E5 D8, D^4 (io) "General purpose I/O.", E6 B10, B^5 (io) "General purpose I/O.", E7 F8, F^4 (io) "General purpose I/O.", E8 A10, A^5 (io) "General purpose I/O.", F1 D2, D^1 (io) "General purpose I/O.", F5 C12, C^6 (io) "General purpose I/O.", F6 C0, C^0 (io) "General purpose I/O.", F7 B2, B^1 (io) "General purpose I/O.", F8 A14, A^7 (io) "General purpose I/O.", G1 D0, D^0 (io) "General purpose I/O.", G2 E8, E^4 (io) "General purpose I/O.", G3 E12, E^6 (io) "General purpose I/O.", G4 F0, F^0 (io) "General purpose I/O.", G5 D4, D^2 (io) "General purpose I/O.", G6 F2, F^1 (io) "General purpose I/O.", H1 E6, E^3 (io) "General purpose I/O.", H2 E4, E^2 (io) "General purpose I/O.", H3 E2, E^1 (io) "General purpose I/O.", H4 E0, E^0 (io) "General purpose I/O.", H5 E10, E^5 (io) "General purpose I/O.", H6 E14, E^7 (io) "General purpose I/O.", J1 H6, H^3 (io) "General purpose I/O.", J2 H4, H^2 (io) "General purpose I/O.", J3 H2, H^1 (io) "General purpose I/O.", J4 H0, H^0 (io) "General purpose I/O.", J5 H10, H^5 (io) "General purpose I/O.", J6 H14, H^7 (io) "General purpose I/O.", K1 H8, H^4 (io) "General purpose I/O.", K2 H12, H^6 (io) "General purpose I/O.", K3 G0, G^0 (io) "General purpose I/O.", K4 G2, G^1 (io) "General purpose I/O.", K5 J0, J^0 (io) "General purpose I/O.", K6 J4, J^2 (io) "General purpose I/O.", L1 I14, I^7 (io) "General purpose I/O.", L2 I12, I^6 (io) "General purpose I/O.", L5 J8, J^4 (io) "General purpose I/O.", L6 J12, J^6 (io) "General purpose I/O.", L7 K4, K^2 (io) "General purpose I/O.", L8 L10, L^5 (io) "General purpose I/O.", M3 I8, I^4 (io) "General purpose I/O.", M4 G4, G^2 (io) "General purpose I/O.", M5 I4, I^2 (io) "General purpose I/O.", M6 K8, K^4 (io) "General purpose I/O.", M7 K0, K^0 (io) "General purpose I/O.", M8 L6, L^3 (io) "General purpose I/O.", N1 I10, I^5 (io) "General purpose I/O.", N2 G6, G^3 (io) "General purpose I/O.", N3 J6, J^3 (io) "General purpose I/O.", N4 K14, K^7 (io) "General purpose I/O.", N5 K2, K^1 (io) "General purpose I/O.", N7 G14, G^7 (io) "General purpose I/O.", N8 L4, L^2 (io) "General purpose I/O.", P1 J2, J^1 (io) "General purpose I/O.", P2 J10, J^5 (io) "General purpose I/O.", P4 K6, K^3 (io) "General purpose I/O.", P5 G8, G^4 (io) "General purpose I/O.", P7 L14, L^7 (io) "General purpose I/O.", P8 L0, L^0 (io) "General purpose I/O.", R1 J14, J^7 (io) "General purpose I/O.", R3 K10, K^5 (io) "General purpose I/O.", R4 G10, G^5 (io) "General purpose I/O.", R6 I0, I^0 (io) "General purpose I/O.", R7 L12, L^6 (io) "General purpose I/O.", R8 L2, L^1 (io) "General purpose I/O.", T2 I6, I^3 (io) "General purpose I/O.", T3 K12, K^6 (io) "General purpose I/O.", T5 I2, I^1 (io) "General purpose I/O.", T6 G12, G^6 (io) "General purpose I/O.", T7 L8, L^4 (io) "General purpose I/O."
part B pins: A9 HX8, HX^4 (io) "General purpose I/O.", A10 HX10, HX^5 (io) "General purpose I/O.", A11 CX12, CX^6 (io) "General purpose I/O.", A12 EX2, EX^1 (io) "General purpose I/O.", A13 CX10, CX^5 (io) "General purpose I/O.", A14 GX12, GX^6 (io) "General purpose I/O.", A15 EX6, EX^3 (io) "General purpose I/O.", B9 HX4, HX^2 (io) "General purpose I/O.", B10 HX12, HX^6 (io) "General purpose I/O.", B11 EX0, EX^0 (io) "General purpose I/O.", B13 GX4, GX^2 (io) "General purpose I/O.", B14 EX4, EX^2 (io) "General purpose I/O.", B16 FX14, FX^7 (io) "General purpose I/O.", C9 HX0, HX^0 (io) "General purpose I/O.", C10 HX14, HX^7 (io) "General purpose I/O.", C12 GX0, GX^0 (io) "General purpose I/O.", C13 GX10, GX^5 (io) "General purpose I/O.", C15 FX12, FX^6 (io) "General purpose I/O.", C16 FX6, FX^3 (io) "General purpose I/O.", D10 CX14, CX^7 (io) "General purpose I/O.", D13 GX8, GX^4 (io) "General purpose I/O.", D14 FX10, FX^5 (io) "General purpose I/O.", D15 FX2, FX^1 (io) "General purpose I/O.", D16 CX4, CX^2 (io) "General purpose I/O.", E9 HX2/GOE1, HX^1 (io) "Either Global Output Enable Input or general I/O.", E10 CX8, CX^4 (io) "General purpose I/O.", E11 GX6, GX^3 (io) "General purpose I/O.", E12 GX14, GX^7 (io) "General purpose I/O.", E13 EX8, EX^4 (io) "General purpose I/O.", E14 CX6, CX^3 (io) "General purpose I/O.", F9 HX6, HX^3 (io) "General purpose I/O.", F10 GX2, GX^1 (io) "General purpose I/O.", F11 FX4, FX^2 (io) "General purpose I/O.", F12 FX8, FX^4 (io) "General purpose I/O.", F15 EX12, EX^6 (io) "General purpose I/O.", F16 CX0, CX^0 (io) "General purpose I/O.", G11 FX0, FX^0 (io) "General purpose I/O.", G12 EX10, EX^5 (io) "General purpose I/O.", G13 CX2, CX^1 (io) "General purpose I/O.", G14 EX14, EX^7 (io) "General purpose I/O.", G15 DX12, DX^6 (io) "General purpose I/O.", G16 DX8, DX^4 (io) "General purpose I/O.", H11 DX14, DX^7 (io) "General purpose I/O.", H12 DX10, DX^5 (io) "General purpose I/O.", H13 DX6, DX^3 (io) "General purpose I/O.", H14 DX4, DX^2 (io) "General purpose I/O.", H15 DX2, DX^1 (io) "General purpose I/O.", H16 AX2, AX^1 (io) "General purpose I/O.", J11 BX2, BX^1 (io) "General purpose I/O.", J12 AX14, AX^7 (io) "General purpose I/O.", J13 AX0, AX^0 (io) "General purpose I/O.", J14 DX0, DX^0 (io) "General purpose I/O.", J15 AX4, AX^2 (io) "General purpose I/O.", J16 AX6, AX^3 (io) "General purpose I/O.", K11 O8, O^4 (io) "General purpose I/O.", K12 O4, O^2 (io) "General purpose I/O.", K13 AX12, AX^6 (io) "General purpose I/O.", K14 AX10, AX^5 (io) "General purpose I/O.", K15 BX0, BX^0 (io) "General purpose I/O.", K16 AX8, AX^4 (io) "General purpose I/O.", L9 M14, M^7 (io) "General purpose I/O.", L10 N4, N^2 (io) "General purpose I/O.", L11 O12, O^6 (io) "General purpose I/O.", L15 P12, P^6 (io) "General purpose I/O.", L16 P14, P^7 (io) "General purpose I/O.", M9 M10, M^5 (io) "General purpose I/O.", M10 N0, N^0 (io) "General purpose I/O.", M11 N8, N^4 (io) "General purpose I/O.", M12 P4, P^2 (io) "General purpose I/O.", M13 BX4, BX^2 (io) "General purpose I/O.", M14 O6, O^3 (io) "General purpose I/O.", M15 BX6, BX^3 (io) "General purpose I/O.", N10 BX14, BX^7 (io) "General purpose I/O.", N13 N14, N^7 (io) "General purpose I/O.", N14 P10, P^5 (io) "General purpose I/O.", N15 O2, O^1 (io) "General purpose I/O.", N16 O0, O^0 (io) "General purpose I/O.", P9 M0, M^0 (io) "General purpose I/O.", P10 M12, M^6 (io) "General purpose I/O.", P12 BX8, BX^4 (io) "General purpose I/O.", P13 N12, N^6 (io) "General purpose I/O.", P15 O14, O^7 (io) "General purpose I/O.", P16 O10, O^5 (io) "General purpose I/O.", R9 M2, M^1 (io) "General purpose I/O.", R10 M8, M^4 (io) "General purpose I/O.", R11 P0, P^0 (io) "General purpose I/O.", R13 N2, N^1 (io) "General purpose I/O.", R14 N10, N^5 (io) "General purpose I/O.", R16 P8, P^4 (io) "General purpose I/O.", T9 M4, M^2 (io) "General purpose I/O.", T10 M6, M^3 (io) "General purpose I/O.", T11 BX12, BX^6 (io) "General purpose I/O.", T12 P2, P^1 (io) "General purpose I/O.", T13 BX10, BX^5 (io) "General purpose I/O.", T14 N6, N^3 (io) "General purpose I/O.", T15 P6, P^3 (io) "General purpose I/O."
part C pins: B8 CLK0/I (in) "Either CLK input or input.", D9 CLK3/I (in) "Either CLK input or input.", N9 CLK2/I (in) "Either CLK input or input.", T8 CLK1/I (in) "Either CLK input or input."
part D pins: C3 TDI (in) "Test Data Input. Loads data into device using 1149.1 state machine.", C14 TDO (out) "Test Data Output. Shifts data out of device using 1149.1.", P3 TCK (in) "Test Clock Input for 1149.1 state machine.", P14 TMS (in) "Test Mode Select Input to control 1149.1 state machine."
part E pins: B2 VCC (power) "Power supply for logic core and JTAG port.", B15 VCC (power) "Power supply for logic core and JTAG port.", D6 VCCO (Bank0) (power) "Power supply pin for I/O bank.", D11 VCCO (Bank1) (power) "Power supply pin for I/O bank.", F4 VCCO (Bank0) (power) "Power supply pin for I/O bank.", F13 VCCO (Bank1) (power) "Power supply pin for I/O bank.", G8 VCC (power) "Power supply for logic core and JTAG port.", G9 VCC (power) "Power supply for logic core and JTAG port.", H7 VCCO (Bank0) (power) "Power supply pin for I/O bank.", H10 VCCO (Bank1) (power) "Power supply pin for I/O bank.", J7 VCCO (Bank0) (power) "Power supply pin for I/O bank.", J10 VCCO (Bank1) (power) "Power supply pin for I/O bank.", K8 VCC (power) "Power supply for logic core and JTAG port.", K9 VCC (power) "Power supply for logic core and JTAG port.", L4 VCCO (Bank0) (power) "Power supply pin for I/O bank.", L13 VCCO (Bank1) (power) "Power supply pin for I/O bank.", N6 VCCO (Bank0) (power) "Power supply pin for I/O bank.", N11 VCCO (Bank1) (power) "Power supply pin for I/O bank.", R2 VCC (power) "Power supply for logic core and JTAG port.", R15 VCC (power) "Power supply for logic core and JTAG port."
part F pins: A1 GND (power) "Ground", A16 GND (power) "Ground", C6 GND (Bank0) (power) "I/O Ground", C11 GND (Bank1) (power) "I/O Ground", F3 GND (Bank0) (power) "I/O Ground", F14 GND (Bank1) (power) "I/O Ground", G7 GND (Bank0) (power) "I/O Ground", G10 GND (Bank1) (power) "I/O Ground", H8 GND (power) "Ground", H9 GND (power) "Ground", J8 GND (power) "Ground", J9 GND (power) "Ground", K7 GND (Bank0) (power) "I/O Ground", K10 GND (Bank1) (power) "I/O Ground", L3 GND (Bank0) (power) "I/O Ground", L14 GND (Bank1) (power) "I/O Ground", P6 GND (Bank0) (power) "I/O Ground", P11 GND (Bank1) (power) "I/O Ground", T1 GND (power) "Ground", T16 GND (power) "Ground"
part G pins: B5 NC "Not Connected.", B12 NC "Not Connected.", D5 NC "Not Connected.", D12 NC "Not Connected.", E1 NC "Not Connected.", E15 NC "Not Connected.", E16 NC "Not Connected.", F2 NC "Not Connected.", L12 NC "Not Connected.", M1 NC "Not Connected.", M2 NC "Not Connected.", M16 NC "Not Connected.", N12 NC "Not Connected.", R5 NC "Not Connected.", R12 NC "Not Connected.", T4 NC "Not Connected."
part A text: BANK 0
part B text: BANK 1

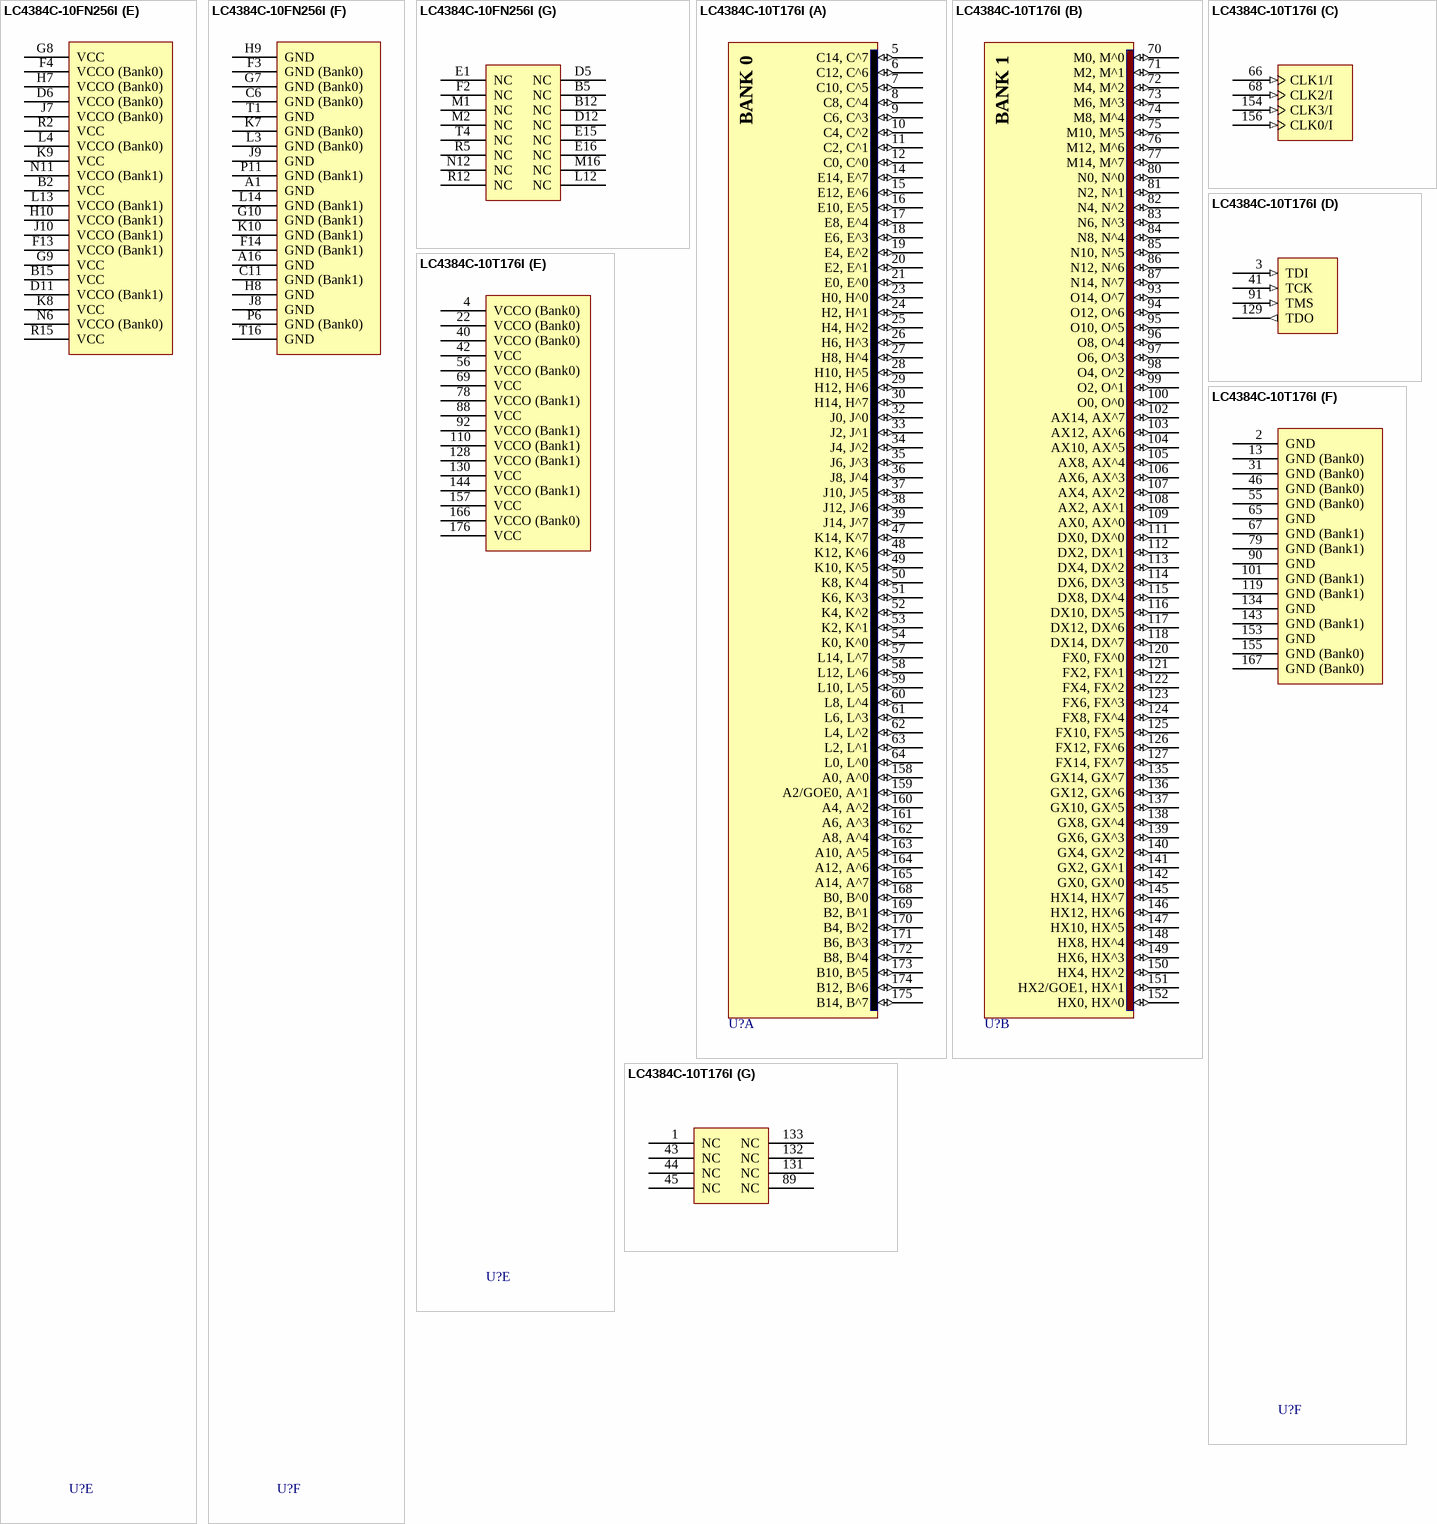
[diagram p73: symbols LC4384C-10FN256I to LC4384C-10T176I]

## LC4384C-10FN256I
designator U?
ispMACH 4384 SuperFAST High Density PLD, 1.8 V, 192 User I/Os, 256-Ball Pb-Free fpBGA, 10 ns, Industrial Grade; DatasheetVersion: ver22.3, Mar-2007; PackageVersion: ver01.8, Dec-2008; PackageReference: fpBGA256; PackageDescription: 256-Ball Fine Pitch Ball Grid Array (fpBGA256); Code_IPC: BGA100P16X16-256; ComponentLink1Description: Manufacturer URL; ComponentLink1URL: http://www.latticesemi.com/; ComponentLink2Description: Datasheet; ComponentLink2URL: http://www.latticesemi.com/dynamic/view_document.cfm?document_id=3646
footprint fpBGA256 (BGA, 256-Leads, Body 17x17mm, Pitch 1mm)
part A pins: A2 B8, B^4 (io) "General purpose I/O.", A3 B0, B^0 (io) "General purpose I/O.", A4 F10, F^5 (io) "General purpose I/O.", A5 D12, D^6 (io) "General purpose I/O.", A6 F12, F^6 (io) "General purpose I/O.", A7 A6, A^3 (io) "General purpose I/O.", A8 A4, A^2 (io) "General purpose I/O.", B1 C14, C^7 (io) "General purpose I/O.", B3 B12, B^6 (io) "General purpose I/O.", B4 B4, B^2 (io) "General purpose I/O.", B6 D14, D^7 (io) "General purpose I/O.", B7 A8, A^4 (io) "General purpose I/O.", C1 C8, C^4 (io) "General purpose I/O.", C2 C6, C^3 (io) "General purpose I/O.", C4 B14, B^7 (io) "General purpose I/O.", C5 B6, B^3 (io) "General purpose I/O.", C7 F14, F^7 (io) "General purpose I/O.", C8 A2/GOE0, A^1 (io) "Either Global Output Enable Input or general I/O.", D1 F6, F^3 (io) "General purpose I/O.", D2 C2, C^1 (io) "General purpose I/O.", D3 C10, C^5 (io) "General purpose I/O.", D4 D10, D^5 (io) "General purpose I/O.", D7 A12, A^6 (io) "General purpose I/O.", D8 A0, A^0 (io) "General purpose I/O.", E2 F4, F^2 (io) "General purpose I/O.", E3 C4, C^2 (io) "General purpose I/O.", E4 D6, D^3 (io) "General purpose I/O.", E5 D8, D^4 (io) "General purpose I/O.", E6 B10, B^5 (io) "General purpose I/O.", E7 F8, F^4 (io) "General purpose I/O.", E8 A10, A^5 (io) "General purpose I/O.", F1 D2, D^1 (io) "General purpose I/O.", F5 C12, C^6 (io) "General purpose I/O.", F6 C0, C^0 (io) "General purpose I/O.", F7 B2, B^1 (io) "General purpose I/O.", F8 A14, A^7 (io) "General purpose I/O.", G1 D0, D^0 (io) "General purpose I/O.", G2 E8, E^4 (io) "General purpose I/O.", G3 E12, E^6 (io) "General purpose I/O.", G4 F0, F^0 (io) "General purpose I/O.", G5 D4, D^2 (io) "General purpose I/O.", G6 F2, F^1 (io) "General purpose I/O.", H1 E6, E^3 (io) "General purpose I/O.", H2 E4, E^2 (io) "General purpose I/O.", H3 E2, E^1 (io) "General purpose I/O.", H4 E0, E^0 (io) "General purpose I/O.", H5 E10, E^5 (io) "General purpose I/O.", H6 E14, E^7 (io) "General purpose I/O.", J1 H6, H^3 (io) "General purpose I/O.", J2 H4, H^2 (io) "General purpose I/O.", J3 H2, H^1 (io) "General purpose I/O.", J4 H0, H^0 (io) "General purpose I/O.", J5 H10, H^5 (io) "General purpose I/O.", J6 H14, H^7 (io) "General purpose I/O.", K1 H8, H^4 (io) "General purpose I/O.", K2 H12, H^6 (io) "General purpose I/O.", K3 G0, G^0 (io) "General purpose I/O.", K4 G2, G^1 (io) "General purpose I/O.", K5 J0, J^0 (io) "General purpose I/O.", K6 J4, J^2 (io) "General purpose I/O.", L1 I14, I^7 (io) "General purpose I/O.", L2 I12, I^6 (io) "General purpose I/O.", L5 J8, J^4 (io) "General purpose I/O.", L6 J12, J^6 (io) "General purpose I/O.", L7 K4, K^2 (io) "General purpose I/O.", L8 L10, L^5 (io) "General purpose I/O.", M3 I8, I^4 (io) "General purpose I/O.", M4 G4, G^2 (io) "General purpose I/O.", M5 I4, I^2 (io) "General purpose I/O.", M6 K8, K^4 (io) "General purpose I/O.", M7 K0, K^0 (io) "General purpose I/O.", M8 L6, L^3 (io) "General purpose I/O.", N1 I10, I^5 (io) "General purpose I/O.", N2 G6, G^3 (io) "General purpose I/O.", N3 J6, J^3 (io) "General purpose I/O.", N4 K14, K^7 (io) "General purpose I/O.", N5 K2, K^1 (io) "General purpose I/O.", N7 G14, G^7 (io) "General purpose I/O.", N8 L4, L^2 (io) "General purpose I/O.", P1 J2, J^1 (io) "General purpose I/O.", P2 J10, J^5 (io) "General purpose I/O.", P4 K6, K^3 (io) "General purpose I/O.", P5 G8, G^4 (io) "General purpose I/O.", P7 L14, L^7 (io) "General purpose I/O.", P8 L0, L^0 (io) "General purpose I/O.", R1 J14, J^7 (io) "General purpose I/O.", R3 K10, K^5 (io) "General purpose I/O.", R4 G10, G^5 (io) "General purpose I/O.", R6 I0, I^0 (io) "General purpose I/O.", R7 L12, L^6 (io) "General purpose I/O.", R8 L2, L^1 (io) "General purpose I/O.", T2 I6, I^3 (io) "General purpose I/O.", T3 K12, K^6 (io) "General purpose I/O.", T5 I2, I^1 (io) "General purpose I/O.", T6 G12, G^6 (io) "General purpose I/O.", T7 L8, L^4 (io) "General purpose I/O."
part B pins: A9 HX8, HX^4 (io) "General purpose I/O.", A10 HX10, HX^5 (io) "General purpose I/O.", A11 CX12, CX^6 (io) "General purpose I/O.", A12 EX2, EX^1 (io) "General purpose I/O.", A13 CX10, CX^5 (io) "General purpose I/O.", A14 GX12, GX^6 (io) "General purpose I/O.", A15 EX6, EX^3 (io) "General purpose I/O.", B9 HX4, HX^2 (io) "General purpose I/O.", B10 HX12, HX^6 (io) "General purpose I/O.", B11 EX0, EX^0 (io) "General purpose I/O.", B13 GX4, GX^2 (io) "General purpose I/O.", B14 EX4, EX^2 (io) "General purpose I/O.", B16 FX14, FX^7 (io) "General purpose I/O.", C9 HX0, HX^0 (io) "General purpose I/O.", C10 HX14, HX^7 (io) "General purpose I/O.", C12 GX0, GX^0 (io) "General purpose I/O.", C13 GX10, GX^5 (io) "General purpose I/O.", C15 FX12, FX^6 (io) "General purpose I/O.", C16 FX6, FX^3 (io) "General purpose I/O.", D10 CX14, CX^7 (io) "General purpose I/O.", D13 GX8, GX^4 (io) "General purpose I/O.", D14 FX10, FX^5 (io) "General purpose I/O.", D15 FX2, FX^1 (io) "General purpose I/O.", D16 CX4, CX^2 (io) "General purpose I/O.", E9 HX2/GOE1, HX^1 (io) "Either Global Output Enable Input or general I/O.", E10 CX8, CX^4 (io) "General purpose I/O.", E11 GX6, GX^3 (io) "General purpose I/O.", E12 GX14, GX^7 (io) "General purpose I/O.", E13 EX8, EX^4 (io) "General purpose I/O.", E14 CX6, CX^3 (io) "General purpose I/O.", F9 HX6, HX^3 (io) "General purpose I/O.", F10 GX2, GX^1 (io) "General purpose I/O.", F11 FX4, FX^2 (io) "General purpose I/O.", F12 FX8, FX^4 (io) "General purpose I/O.", F15 EX12, EX^6 (io) "General purpose I/O.", F16 CX0, CX^0 (io) "General purpose I/O.", G11 FX0, FX^0 (io) "General purpose I/O.", G12 EX10, EX^5 (io) "General purpose I/O.", G13 CX2, CX^1 (io) "General purpose I/O.", G14 EX14, EX^7 (io) "General purpose I/O.", G15 DX12, DX^6 (io) "General purpose I/O.", G16 DX8, DX^4 (io) "General purpose I/O.", H11 DX14, DX^7 (io) "General purpose I/O.", H12 DX10, DX^5 (io) "General purpose I/O.", H13 DX6, DX^3 (io) "General purpose I/O.", H14 DX4, DX^2 (io) "General purpose I/O.", H15 DX2, DX^1 (io) "General purpose I/O.", H16 AX2, AX^1 (io) "General purpose I/O.", J11 BX2, BX^1 (io) "General purpose I/O.", J12 AX14, AX^7 (io) "General purpose I/O.", J13 AX0, AX^0 (io) "General purpose I/O.", J14 DX0, DX^0 (io) "General purpose I/O.", J15 AX4, AX^2 (io) "General purpose I/O.", J16 AX6, AX^3 (io) "General purpose I/O.", K11 O8, O^4 (io) "General purpose I/O.", K12 O4, O^2 (io) "General purpose I/O.", K13 AX12, AX^6 (io) "General purpose I/O.", K14 AX10, AX^5 (io) "General purpose I/O.", K15 BX0, BX^0 (io) "General purpose I/O.", K16 AX8, AX^4 (io) "General purpose I/O.", L9 M14, M^7 (io) "General purpose I/O.", L10 N4, N^2 (io) "General purpose I/O.", L11 O12, O^6 (io) "General purpose I/O.", L15 P12, P^6 (io) "General purpose I/O.", L16 P14, P^7 (io) "General purpose I/O.", M9 M10, M^5 (io) "General purpose I/O.", M10 N0, N^0 (io) "General purpose I/O.", M11 N8, N^4 (io) "General purpose I/O.", M12 P4, P^2 (io) "General purpose I/O.", M13 BX4, BX^2 (io) "General purpose I/O.", M14 O6, O^3 (io) "General purpose I/O.", M15 BX6, BX^3 (io) "General purpose I/O.", N10 BX14, BX^7 (io) "General purpose I/O.", N13 N14, N^7 (io) "General purpose I/O.", N14 P10, P^5 (io) "General purpose I/O.", N15 O2, O^1 (io) "General purpose I/O.", N16 O0, O^0 (io) "General purpose I/O.", P9 M0, M^0 (io) "General purpose I/O.", P10 M12, M^6 (io) "General purpose I/O.", P12 BX8, BX^4 (io) "General purpose I/O.", P13 N12, N^6 (io) "General purpose I/O.", P15 O14, O^7 (io) "General purpose I/O.", P16 O10, O^5 (io) "General purpose I/O.", R9 M2, M^1 (io) "General purpose I/O.", R10 M8, M^4 (io) "General purpose I/O.", R11 P0, P^0 (io) "General purpose I/O.", R13 N2, N^1 (io) "General purpose I/O.", R14 N10, N^5 (io) "General purpose I/O.", R16 P8, P^4 (io) "General purpose I/O.", T9 M4, M^2 (io) "General purpose I/O.", T10 M6, M^3 (io) "General purpose I/O.", T11 BX12, BX^6 (io) "General purpose I/O.", T12 P2, P^1 (io) "General purpose I/O.", T13 BX10, BX^5 (io) "General purpose I/O.", T14 N6, N^3 (io) "General purpose I/O.", T15 P6, P^3 (io) "General purpose I/O."
part C pins: B8 CLK0/I (in) "Either CLK input or input.", D9 CLK3/I (in) "Either CLK input or input.", N9 CLK2/I (in) "Either CLK input or input.", T8 CLK1/I (in) "Either CLK input or input."
part D pins: C3 TDI (in) "Test Data Input. Loads data into device using 1149.1 state machine.", C14 TDO (out) "Test Data Output. Shifts data out of device using 1149.1.", P3 TCK (in) "Test Clock Input for 1149.1 state machine.", P14 TMS (in) "Test Mode Select Input to control 1149.1 state machine."
part E pins: B2 VCC (power) "Power supply for logic core and JTAG port.", B15 VCC (power) "Power supply for logic core and JTAG port.", D6 VCCO (Bank0) (power) "Power supply pin for I/O bank.", D11 VCCO (Bank1) (power) "Power supply pin for I/O bank.", F4 VCCO (Bank0) (power) "Power supply pin for I/O bank.", F13 VCCO (Bank1) (power) "Power supply pin for I/O bank.", G8 VCC (power) "Power supply for logic core and JTAG port.", G9 VCC (power) "Power supply for logic core and JTAG port.", H7 VCCO (Bank0) (power) "Power supply pin for I/O bank.", H10 VCCO (Bank1) (power) "Power supply pin for I/O bank.", J7 VCCO (Bank0) (power) "Power supply pin for I/O bank.", J10 VCCO (Bank1) (power) "Power supply pin for I/O bank.", K8 VCC (power) "Power supply for logic core and JTAG port.", K9 VCC (power) "Power supply for logic core and JTAG port.", L4 VCCO (Bank0) (power) "Power supply pin for I/O bank.", L13 VCCO (Bank1) (power) "Power supply pin for I/O bank.", N6 VCCO (Bank0) (power) "Power supply pin for I/O bank.", N11 VCCO (Bank1) (power) "Power supply pin for I/O bank.", R2 VCC (power) "Power supply for logic core and JTAG port.", R15 VCC (power) "Power supply for logic core and JTAG port."
part F pins: A1 GND (power) "Ground", A16 GND (power) "Ground", C6 GND (Bank0) (power) "I/O Ground", C11 GND (Bank1) (power) "I/O Ground", F3 GND (Bank0) (power) "I/O Ground", F14 GND (Bank1) (power) "I/O Ground", G7 GND (Bank0) (power) "I/O Ground", G10 GND (Bank1) (power) "I/O Ground", H8 GND (power) "Ground", H9 GND (power) "Ground", J8 GND (power) "Ground", J9 GND (power) "Ground", K7 GND (Bank0) (power) "I/O Ground", K10 GND (Bank1) (power) "I/O Ground", L3 GND (Bank0) (power) "I/O Ground", L14 GND (Bank1) (power) "I/O Ground", P6 GND (Bank0) (power) "I/O Ground", P11 GND (Bank1) (power) "I/O Ground", T1 GND (power) "Ground", T16 GND (power) "Ground"
part G pins: B5 NC "Not Connected.", B12 NC "Not Connected.", D5 NC "Not Connected.", D12 NC "Not Connected.", E1 NC "Not Connected.", E15 NC "Not Connected.", E16 NC "Not Connected.", F2 NC "Not Connected.", L12 NC "Not Connected.", M1 NC "Not Connected.", M2 NC "Not Connected.", M16 NC "Not Connected.", N12 NC "Not Connected.", R5 NC "Not Connected.", R12 NC "Not Connected.", T4 NC "Not Connected."
part A text: BANK 0
part B text: BANK 1